# Altium schematic symbol library ADA4807-1.SchLib: 1 symbol
Pins are listed as number, name and electrical type; pins without a type are passive.

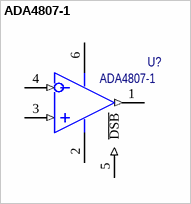
[diagram p0: symbol ADA4807-1]

## ADA4807-1
designator U?
Rail-to-Rail Input/Output Amplifiers, 3.1 nV/√Hz, 1 mA, 180 MHz; Потребление, Вт: 0,01; Назначение: Rail-to-Rail Input/Output Amplifiers, 3.1 nV/√Hz, 1 mA, 180 MHz; ComponentLink1Description: DataSheet; ComponentLink1URL: https://www.analog.com/media/en/technical-documentation/data-sheets/ADA4807-1_4807-2_4807-4.pdf; Supplier 1: Digi-Key; Supplier Part Number 1: ADA4807-1AKSZ-R2CT-ND; Наименование: ADA4807-1
footprint SOT23-6
pins: 1 OUT (out), 2 V- (power), 3 IN+ (in), 4 IN- (in), 5 ~{DSB} (in), 6 V+ (power)